# EAGLE library part AS-ITM-00139 (library tinycircuits)
IC MCU 8BIT 256KB FLASH 48VQFN
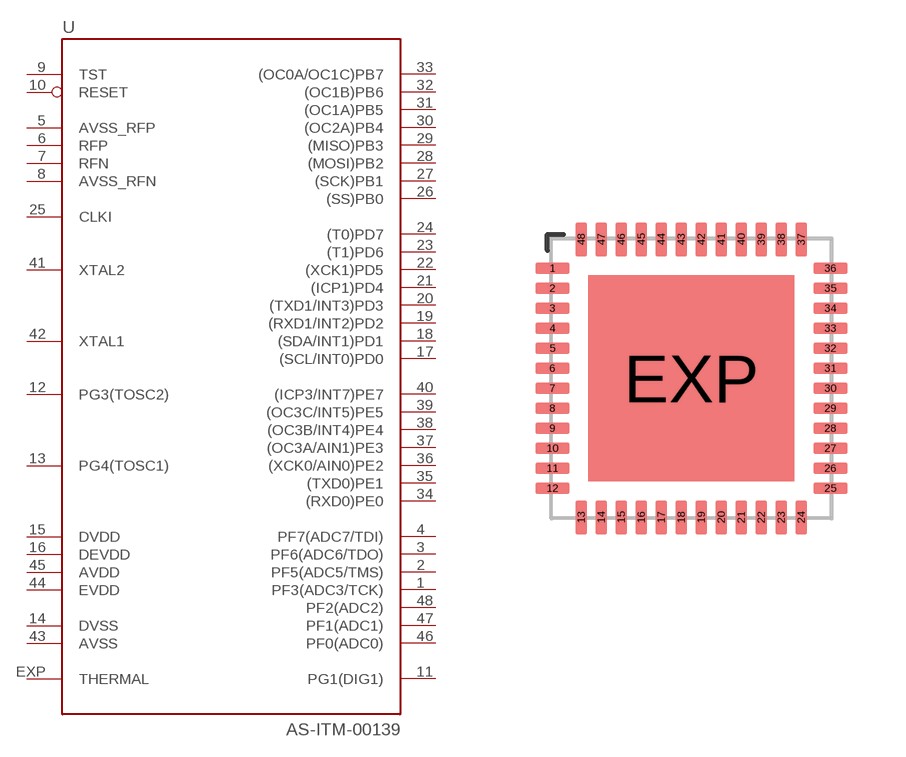
[diagram p61: symbol with the pads of QFN48; footprint QFN48]

Designator prefix -

## AS-ITM-00139 (PARTNO: AS-ITM-00139; VALUE: ATMEGA2564RF)  [QFN48]
1  PF3(ADC3/TCK)  in
2  PF5(ADC5/TMS)  in
3  PF6(ADC6/TDO)  in
4  PF7(ADC7/TDI)  in
5  AVSS_RFP  pwr
6  RFP
7  RFN
8  AVSS_RFN  pwr
9  TST
10  RESET  in
11  PG1(DIG1)
12  PG3(TOSC2)
13  PG4(TOSC1)
14  DVSS  pwr
15  DVDD  pwr
16  DEVDD  pwr
17  (SCL/INT0)PD0
18  (SDA/INT1)PD1
19  (RXD1/INT2)PD2
20  (TXD1/INT3)PD3
21  (ICP1)PD4
22  (XCK1)PD5
23  (T1)PD6
24  (T0)PD7
25  CLKI
26  (SS)PB0
27  (SCK)PB1
28  (MOSI)PB2
29  (MISO)PB3
30  (OC2A)PB4
31  (OC1A)PB5
32  (OC1B)PB6
33  (OC0A/OC1C)PB7
34  (RXD0)PE0
35  (TXD0)PE1
36  (XCK0/AIN0)PE2
37  (OC3A/AIN1)PE3
38  (OC3B/INT4)PE4
39  (OC3C/INT5)PE5
40  (ICP3/INT7)PE7
41  XTAL2
42  XTAL1
43  AVSS  pwr
44  EVDD  pwr
45  AVDD  pwr
46  PF0(ADC0)  in
47  PF1(ADC1)  in
48  PF2(ADC2)  in
EXP  THERMAL  in

## Footprint QFN48 (pad centres in mm)
48-pin QFN 7 x 7 mm LF48 48 Quad Flat Package No Leads Source: http://v4.cypress.com/cfuploads/img/products/cywusb6934.pdf
smd 0.85 x 0.28: 1 -3.475,2.75; 2 -3.475,2.25; 3 -3.475,1.75; 4 -3.475,1.25; 5 -3.475,0.75; 6 -3.475,0.25; 7 -3.475,-0.25; 8 -3.475,-0.75; 9 -3.475,-1.25; 10 -3.475,-1.75; 11 -3.475,-2.25; 12 -3.475,-2.75; 25 3.475,-2.75; 26 3.475,-2.25; 27 3.475,-1.75; 28 3.475,-1.25; 29 3.475,-0.75; 30 3.475,-0.25; 31 3.475,0.25; 32 3.475,0.75; 33 3.475,1.25; 34 3.475,1.75; 35 3.475,2.25; 36 3.475,2.75
smd 0.28 x 0.85: 13 -2.75,-3.475; 14 -2.25,-3.475; 15 -1.75,-3.475; 16 -1.25,-3.475; 17 -0.75,-3.475; 18 -0.25,-3.475; 19 0.25,-3.475; 20 0.75,-3.475; 21 1.25,-3.475; 22 1.75,-3.475; 23 2.25,-3.475; 24 2.75,-3.475; 37 2.75,3.475; 38 2.25,3.475; 39 1.75,3.475; 40 1.25,3.475; 41 0.75,3.475; 42 0.25,3.475; 43 -0.25,3.475; 44 -0.75,3.475; 45 -1.25,3.475; 46 -1.75,3.475; 47 -2.25,3.475; 48 -2.75,3.475
smd 5.15 x 5.15: EXP 0,0